# Altium schematic symbol library Hamamatsu.SchLib: 2 symbols
Pins are listed as number, name and electrical type; pins without a type are passive.

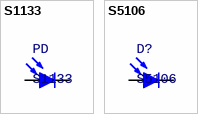
[diagram p0: symbols S1133 to S5106]

## S1133
designator PD
Hamamatsu Photo Diode; Value: S1133
footprint S1133 (Photo Diode, Through Hole)
pins: 1 A, 2 K

## S5106
designator D?
Hamamatsu Photo Diode SMD; Value: S5106; Supplier 1: HAMAMATSU; Supplier Part Number 1: S5106; ComponentLink1URL: http://www.hamamatsu.com/resources/pdf/ssd/s5106_etc_kpin1033e.pdf; ComponentLink1Description: http://www.hamamatsu.com/resources/pdf/ssd/s5106_etc_kpin1033e.pdf; Manufacturer: HAMAMATSU; Manufacturer Part Number: S5106
footprint S5106 (Photo Diode, SMD)
pins: 3 K, 8 A